# Altium footprint library IMXRT1052_MB_PRO.PcbLib: 59 footprints (part 1 of 4)
Each footprint in its own frame and in the unit in brackets; x right, y up, seen from the top. Pads: shape width x height; smd on the part's side, far side on the other; paste and mask are expansions set on the pad; w line width, h text height; cw(c..) or ccw(c..) is an arc to the next point about the centre after c.
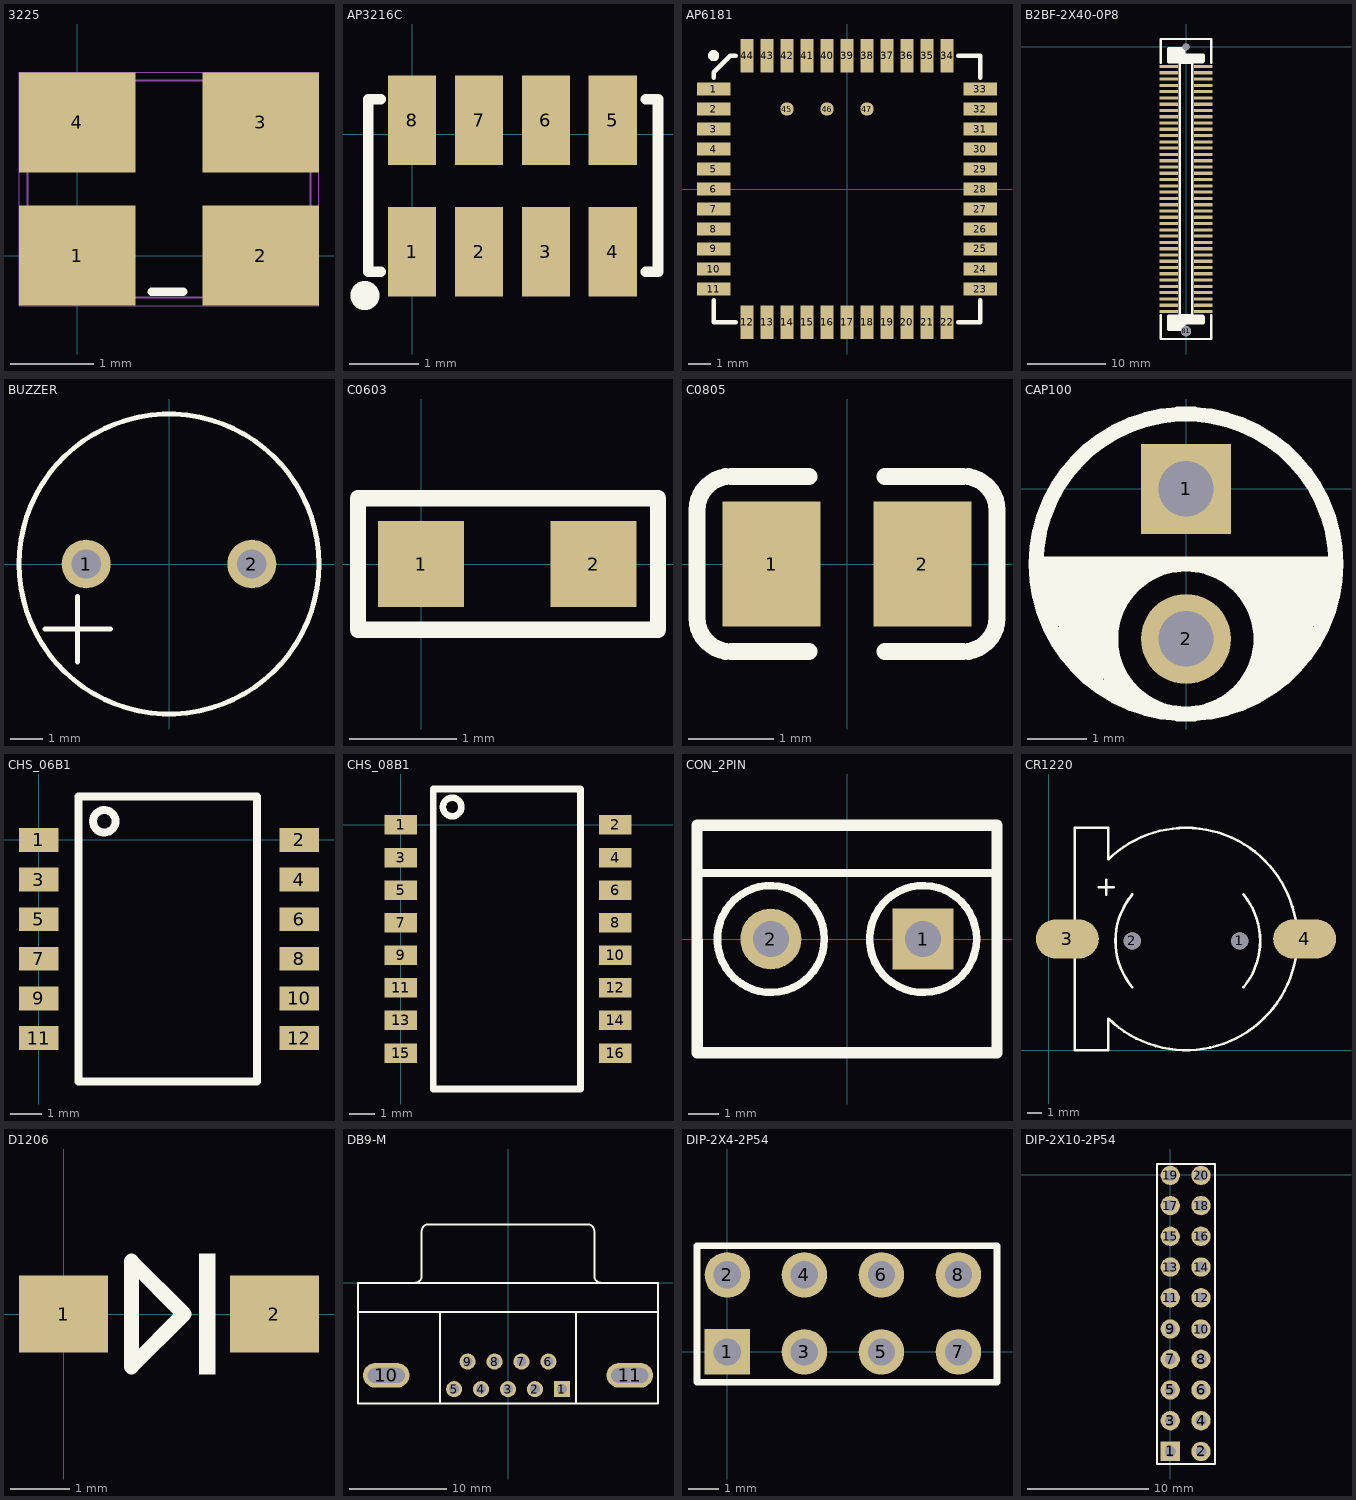
[diagram p0: the footprints below, top view; thin cyan lines are the x and y axes]

## 3225 [mm]
pads (4):
  rect 1.4x1.2 smd paste-0.06 mask+0.05: 1(0,0) 2(2.2,0) 3(2.2,1.6) 4(0,1.6)
Top Overlay:
  lines w0.1: 0.889,-0.432 1.27,-0.432
Mechanical 16:
  lines w0.003: -0.7,-0.6 -0.7,2.2 2.9,2.2 2.9,-0.6 -0.7,-0.6
  lines w0.025: -0.6,-0.5 -0.6,2.1 2.8,2.1 2.8,-0.5 -0.6,-0.5

## AP3216C [mm]
pads (8):
  rect 0.7x1.3 smd: 1(0,-1.703) 2(0.97,-1.703) 3(1.94,-1.703) 4(2.91,-1.703) 5(2.91,0.203) 6(1.94,0.203) 7(0.97,0.203) 8(0,0.203)
Top Overlay:
  circle w0.224: c-0.684,-2.337 r0.1
  lines w0.152: -0.457,-1.992 -0.635,-1.992 -0.635,0.508 -0.457,0.508 ; 3.387,-1.992 3.565,-1.992 3.565,0.508 3.387,0.508

## AP6181 [mm]
pads (47):
  rect 1.5x0.6 smd: 1(-6,4.5) 2(-6,3.6) 3(-6,2.7) 4(-6,1.8) 5(-6,0.9) 6(-6,0) 7(-6,-0.9) 8(-6,-1.8) 9(-6,-2.7) 10(-6,-3.6) 11(-6,-4.5) 23(6,-4.5) 24(6,-3.6) 25(6,-2.7) 26(6,-1.8) 27(6,-0.9) 28(6,0) 29(6,0.9) 30(6,1.8) 31(6,2.7) 32(6,3.6) 33(6,4.5)
  rect 0.6x1.5 smd: 12(-4.5,-6) 13(-3.6,-6) 14(-2.7,-6) 15(-1.8,-6) 16(-0.9,-6) 17(0,-6) 18(0.9,-6) 19(1.8,-6) 20(2.7,-6) 21(3.6,-6) 22(4.5,-6) 34(4.5,6) 35(3.6,6) 36(2.7,6) 37(1.8,6) 38(0.9,6) 39(0,6) 40(-0.9,6) 41(-1.8,6) 42(-2.7,6) 43(-3.6,6) 44(-4.5,6)
  round 0.6 smd: 45(-2.7,3.6) 46(-0.9,3.6) 47(0.9,3.6)
Top Overlay:
  circle w0.25: c-6,6 r0.125
  lines w0.2: -6,-5 -6,-6 -5,-6 ; -6,5 -6,5.25 -5.25,6 -5,6 ; 5,-6 6,-6 6,-5 ; 5,6 6,6 6,5

## B2BF-2X40-0P8 [mm]
pads (82):
  rect 2.3x0.4 smd: 1(2.2,-2.5) 2(-2.2,-2.5) 3(2.2,-3.3) 4(-2.2,-3.3) 5(2.2,-4.1) 6(-2.2,-4.1) 7(2.2,-4.9) 8(-2.2,-4.9) 9(2.2,-5.7) 10(-2.2,-5.7) 11(2.2,-6.5) 12(-2.2,-6.5) 13(2.2,-7.3) 14(-2.2,-7.3) 15(2.2,-8.1) 16(-2.2,-8.1) 17(2.2,-8.9) 18(-2.2,-8.9) 19(2.2,-9.7) 20(-2.2,-9.7) 21(2.2,-10.5) 22(-2.2,-10.5) 23(2.2,-11.3) 24(-2.2,-11.3) 25(2.2,-12.1) 26(-2.2,-12.1) 27(2.2,-12.9) 28(-2.2,-12.9) 29(2.2,-13.7) 30(-2.2,-13.7) 31(2.2,-14.5) 32(-2.2,-14.5) 33(2.2,-15.3) 34(-2.2,-15.3) 35(2.2,-16.1) 36(-2.2,-16.1) 37(2.2,-16.9) 38(-2.2,-16.9) 39(2.2,-17.7) 40(-2.2,-17.7) 41(2.2,-18.5) 42(-2.2,-18.5) 43(2.2,-19.3) 44(-2.2,-19.3) 45(2.2,-20.1) 46(-2.2,-20.1) 47(2.2,-20.9) 48(-2.2,-20.9) 49(2.2,-21.7) 50(-2.2,-21.7) 51(2.2,-22.5) 52(-2.2,-22.5) 53(2.2,-23.3) 54(-2.2,-23.3) 55(2.2,-24.1) 56(-2.2,-24.1) 57(2.2,-24.9) 58(-2.2,-24.9) 59(2.2,-25.7) 60(-2.2,-25.7) 61(2.2,-26.5) 62(-2.2,-26.5) 63(2.2,-27.3) 64(-2.2,-27.3) 65(2.2,-28.1) 66(-2.2,-28.1) 67(2.2,-28.9) 68(-2.2,-28.9) 69(2.2,-29.7) 70(-2.2,-29.7) 71(2.2,-30.5) 72(-2.2,-30.5) 73(2.2,-31.3) 74(-2.2,-31.3) 75(2.2,-32.1) 76(-2.2,-32.1) 77(2.2,-32.9) 78(-2.2,-32.9) 79(2.2,-33.7) 80(-2.2,-33.7)
  round 1.3 hole 1.3: 81(0,-36.2)
  round 0.9 hole 0.9: 82(0,0)
Top Overlay:
  lines w0.305: -3.2,-34.2 -3.2,-37.2 3.2,-37.2 3.2,-34.2 ; -3.2,-2 -3.2,1 3.2,1 3.2,-2 ; -0.8,-34.2 -0.8,-2 0.8,-2 0.8,-34.2 -0.8,-34.2
  lines w0.5: -2.2,-34.4 -2.2,-35.9 -0.3,-35.9 -0.3,-35.1 2.2,-35.1 2.2,-34.4 ; -2.2,-34.3 2.1,-34.3 ; -2.2,-1.9 2.1,-1.9 ; -2.2,-1.8 -2.2,-0.3 -0.3,-0.3 -0.3,-1.1 2.2,-1.1 2.2,-1.8 ; -2.1,-35.4 -0.4,-35.4 ; -2.1,-35.1 -0.4,-35.1 ; -2.1,-34.7 2.1,-34.7 ; -2.1,-1.5 2.1,-1.5 ; -2.1,-1.1 -0.4,-1.1 ; -2.1,-0.8 -0.4,-0.8

## BUZZER [mm]
pads (2):
  round 1.5 hole 0.9: 1(-2.54,0) 2(2.54,0)
Top Overlay:
  circle w0.152: c0,0 r4.6
  lines w0.152: -3.8,-2 -1.8,-2 ; -2.8,-3 -2.8,-1

## C0603 [mm]
pads (2):
  rect 0.8x0.8 smd: 1(0,0) 2(1.6,0)
Top Overlay:
  lines w0.152: -0.584,-0.61 2.197,-0.61 2.197,0.61 -0.584,0.61 -0.584,-0.61

## C0805 [mm]
pads (2):
  rect 1.16x1.47 smd: 1(-0.89,0) 2(0.89,0)
Top Overlay:
  lines w0.2: -0.45,-1.035 -1.37,-1.035 cw(c-1.37,-0.635) -1.77,-0.635 -1.77,0.635 cw(c-1.37,0.635) -1.37,1.035 -0.45,1.035 ; 0.45,-1.035 1.37,-1.035 ccw(c1.37,-0.635) 1.77,-0.635 1.77,0.635 ccw(c1.37,0.635) 1.37,1.035 0.45,1.035

## CAP100 [mil]
pads (2):
  rect 60x60 / inner round 60 / far side rect 60x60 hole 37: 1(0,0)
  round 60 hole 37: 2(0,-100)
Top Overlay:
  circle w10: c0,-50 r100
  lines w10: -100,-50 100,-50 ; -90,-90 -90,-50 ; -80,-110 -80,-55 ; -70,-120 -70,-55 ; -60,-125 -60,-55 ; -50,-135 -50,-50 ; -45,-135 -45,-130 ; -40,-70 -40,-50 ; -30,-60 -30,-50 ; 35,-60 35,-55 ; 40,-70 40,-55 ; 45,-135 45,-130 ; 50,-135 50,-55 ; 60,-130 60,-55 ; 70,-120 70,-55 ; 80,-110 80,-55 ; 90,-90 90,-55 ; 0,-150 ccw(c0,-100) 0,-50 ccw(c-0.26,-100) 0,-150
Bottom Overlay:
  region: -34.37,-20.24 33.54,-20.24 33.62,-85.07 32.01,-82.98 22.52,-75.69 11.47,-71.11 -0.4,-69.55 -12.26,-71.11 -23.32,-75.69 -32.81,-82.98 -34.47,-85.14 -34.37,-85.2

## CHS_06B1 [mm]
pads (12):
  rect 1.27x0.76 smd: 1(0,0) 2(8.35,0) 3(0,-1.27) 4(8.35,-1.27) 5(0,-2.54) 6(8.35,-2.54) 7(0,-3.81) 8(8.35,-3.81) 9(0,-5.08) 10(8.35,-5.08) 11(0,-6.35) 12(8.35,-6.35)
Top Overlay:
  circle w0.254: c2.1,0.6 r0.361
  lines w0.254: 1.27,-7.75 7,-7.75 7,1.4 1.27,1.4 1.27,-7.75

## CHS_08B1 [mm]
pads (16):
  rect 1.27x0.76 smd: 1(0,0) 2(8.35,0) 3(0,-1.27) 4(8.35,-1.27) 5(0,-2.54) 6(8.35,-2.54) 7(0,-3.81) 8(8.35,-3.81) 9(0,-5.08) 10(8.35,-5.08) 11(0,-6.35) 12(8.35,-6.35) 13(0,-7.62) 14(8.35,-7.62) 15(0,-8.89) 16(8.35,-8.89)
Top Overlay:
  circle w0.254: c2,0.7 r0.361
  lines w0.254: 1.27,-10.29 1.27,1.4 7,1.4 7,-10.29 1.27,-10.29

## CON_2PIN [mil]
pads (2):
  rect 80x80 hole 47.24: 1(100,0)
  round 80 hole 47.24: 2(-100,0)
Top Overlay:
  circle w10: c-100,0 r70.21
  circle w10: c100,0 r70.21
  lines w10: -197,86.61 197,86.61
  lines w15: -197,149.61 -196.85,-149.61 197,-149.61 197,149.61 -197,149.61

## CR1220 [mil]
pads (4):
  round 46 hole 46: 1(515,295) 2(225,295)
  oval 169.29x106.3 smd: 3(50,300) 4(690,300)
Top Overlay:
  lines w7: 135,440 175,440 ; 155,420 155,460 ; 160.38,85.39 160,0 70,0 70,300 70,600 160,600 160.38,514.61 ; 160.48,85.29 ccw(c370,300) 668.19,267.08 ; 160.48,514.71 cw(c370,300) 370,600 cw(c370,300) 668.19,332.92 ; 224.77,170.28 cw(c375,295) 224.99,419.99 ; 525.01,170.01 ccw(c375,295) 525.01,419.99

## D1206 [mm]
pads (2):
  rect 1.5x1.3 smd: 1(0,0) 2(3.556,0)
Top Overlay:
  region: 2.286,-1.016 2.559,-1.016 2.559,1.016 2.286,1.016
  lines w0.254: 1.143,-0.889 1.143,0.889 2.032,0 1.143,-0.889

## DB9-M [mil]
pads (11):
  rect 65x65 hole 40: 1(218.11,-429.92)
  round 65 hole 40: 2(109.06,-429.92) 3(0,-429.92) 4(-109.06,-429.92) 5(-218.11,-429.92) 6(163.58,-318.11) 7(54.53,-318.11) 8(-54.53,-318.11) 9(-163.58,-318.11)
  oval 187.4x100 hole 60 slot 150 at 0 deg: 10(-491.93,-374.02) 11(491.93,-374.02)
Top Overlay:
  lines w7.87: -606.3,-118.11 606.3,-118.11 ; -376.38,0.2 ccw(c-376.38,27.56) -349.02,27.56 -348.82,208.86 cw(c-321.46,208.86) -321.46,236.22 321.46,236.22 cw(c321.46,208.86) 348.82,208.86 349.02,27.56 ccw(c376.38,27.56) 376.38,0.2 ; -275.59,-488.19 -275.59,-118.11 ; 275.59,-488.19 275.59,-118.11 ; -606.3,-488.19 606.3,-488.19 606.3,0 -606.3,0 -606.3,-488.19

## DIP-2X4-2P54 [mm]
pads (8):
  rect 1.5x1.5 hole 0.9: 1(0,0)
  round 1.5 hole 0.9: 2(0,2.54) 3(2.54,0) 4(2.54,2.54) 5(5.08,0) 6(5.08,2.54) 7(7.62,0) 8(7.62,2.54)
Top Overlay:
  lines w0.22: -1,-1 8.89,-1 8.89,3.5 -1,3.5 -1,-1

## DIP-2X10-2P54 [mm]
pads (20):
  rect 1.6x1.6 hole 0.9: 1(0,-22.86)
  round 1.6 hole 0.9: 2(2.54,-22.86) 3(0,-20.32) 4(2.54,-20.32) 5(0,-17.78) 6(2.54,-17.78) 7(0,-15.24) 8(2.54,-15.24) 9(0,-12.74) 10(2.54,-12.74) 11(0,-10.16) 12(2.54,-10.16) 13(0,-7.62) 14(2.54,-7.62) 15(0,-5.08) 16(2.54,-5.08) 17(0,-2.54) 18(2.54,-2.54) 19(0,-0.04) 20(2.54,-0.04)
Top Overlay:
  lines w0.15: -1.1,-23.9 3.7,-23.9 3.7,0.9 -1.1,0.9 -1.1,-23.9